# Altium schematic symbol library IC.SchLib: 32 symbols
Pins are listed as number, name and electrical type; pins without a type are passive.

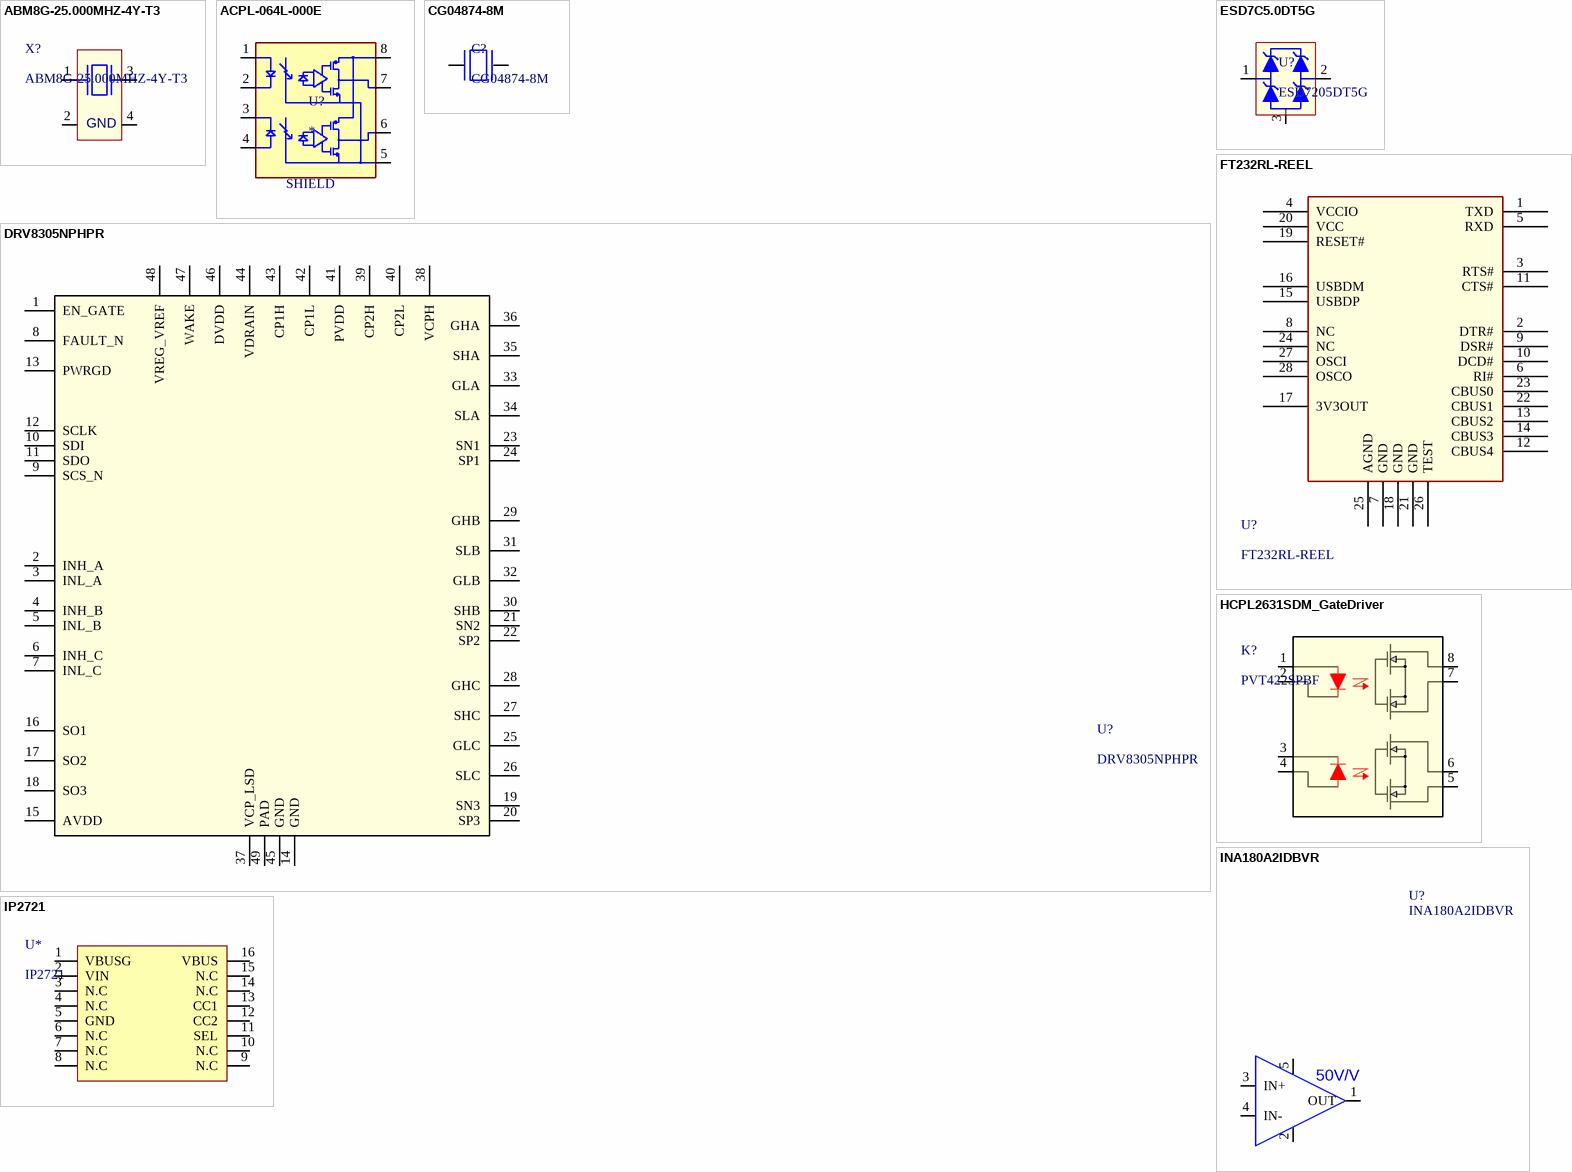
[diagram p0: symbols ABM8G-25.000MHZ-4Y-T3 to IP2721]

## ABM8G-25.000MHZ-4Y-T3
designator X?
Description; Manufacturer_Name: Abracon; Type: Crystals; Copyright: Copyright (C) 2025 Ultra Librarian. All rights reserved.; Manufacturer_Part_Number: ABM8G-25.000MHZ-4Y-T3; RefDes: RefDes
footprint ABM8G_ABR
pins: 1, 2, 3, 4
text: GND

## ACPL-064L-000E
designator U?
MP: ACPL-064L-000E; Value: *; Package: None; Price: None; Availability: Unavailable
footprint OPTO_ACPL-064L-000E
pins: 1 A1, 2 C1, 3 C2, 4 A2, 5 GND (power), 6 VO2, 7 VO1, 8 VDD (power)
text: SHIELD

## CG04874-8M
designator C?
8 MHz ±20ppm Crystal 8pF 500 Ohms 2-SMD, No Lead; MF: NDK America, Inc.; SnapEDA_Link: https://www.snapeda.com/parts/CG04874-8M/NDK+America%252C+Inc./view-part/?ref=snap; Package: SMD-2 NDK America,; Value: *; MP: CG04874-8M; Check_prices: https://www.snapeda.com/parts/CG04874-8M/NDK+America%252C+Inc./view-part/?ref=eda
footprint CG04874 (Footprint not found)
pins: 1, 2

## DRV8305NPHPR
designator U?
45-V max 3-phase smart gate driver with current shunt amplifiers & SPI 48-HTQFP -40 to 125; Manufacturer_Name: Texas Instruments; PartNumber: DRV83053PHPR; Alternate_PartNumber: DRV83053PHP; CompType: IC; TYPE: TYPE; RefDes: RefDes; Copyright: Copyright (C) 2025 Ultra Librarian. All rights reserved.; Manufacturer_Part_Number: DRV8305NPHPR; Application_BuildNumber: *; PackageReference: PHP0048G; MountType: SMT; RoHS: Y; Manufacturer: Texas Instruments
footprint DRV8305NPHPR
pins: 1 EN_GATE, 2 INH_A, 3 INL_A, 4 INH_B, 5 INL_B, 6 INH_C, 7 INL_C, 8 FAULT_N, 9 SCS_N, 10 SDI, 11 SDO, 12 SCLK, 13 PWRGD, 14 GND, 15 AVDD, 16 SO1, 17 SO2, 18 SO3, 19 SN3, 20 SP3, 21 SN2, 22 SP2, 23 SN1, 24 SP1, 25 GLC, 26 SLC, 27 SHC, 28 GHC, 29 GHB, 30 SHB, 31 SLB, 32 GLB, 33 GLA, 34 SLA, 35 SHA, 36 GHA, 37 VCP_LSD, 38 VCPH, 39 CP2H, 40 CP2L, 41 PVDD, 42 CP1L, 43 CP1H, 44 VDRAIN, 45 GND, 46 DVDD, 47 WAKE, 48 VREG_VREF, 49 PAD

## ESD7C5.0DT5G
designator U?, comment ESD7205DT5G
Manufacturer_Name: onsemi; Manufacturer_Part_Number: ESD7C5.0DT5G; Copyright: Copyright (C) 2026 Ultra Librarian. All rights reserved.; RefDes: RefDes; Type: Type
footprint SOT-723_ONS
pins: 1, 2, 3

## FT232RL-REEL
designator U?
Description; Manufacturer_Name: FTDI, Future Technology Devices International Ltd; Copyright: Copyright (C) 2025 Ultra Librarian. All rights reserved.; Manufacturer_Part_Number: FT232RL-REEL; RefDes: RefDes; Type: Type
footprint IC28_SSOP-28_FTD (Footprint not found)
pins: 1 TXD, 2 DTR#, 3 RTS#, 4 VCCIO, 5 RXD, 6 RI#, 7 GND, 8 NC, 9 DSR#, 10 DCD#, 11 CTS#, 12 CBUS4, 13 CBUS2, 14 CBUS3, 15 USBDP, 16 USBDM, 17 3V3OUT, 18 GND, 19 RESET#, 20 VCC, 21 GND, 22 CBUS1, 23 CBUS0, 24 NC, 25 AGND, 26 TEST, 27 OSCI, 28 OSCO

## HCPL2631SDM_GateDriver
designator K?, comment PVT422SPBF
PWM/Level Shifter/Votlage Isolator; Manufacturer_Name: Infineon; Type: Solid State Relays; Copyright: Copyright (C) 2026 Ultra Librarian. All rights reserved.; Manufacturer_Part_Number: PVT422SPBF; RefDes: RefDes
footprint HCPL2631SDM_GateDriver
pins: 1, 2, 3, 4, 5, 6, 7, 8

## INA180A2IDBVR
designator U?  Gain: 50V/V
26V, 350kHz current sense amplifier 5-SOT-23 -40 to 125; Manufacturer_Name: Texas Instruments; RefDes: RefDes; Copyright: Copyright (C) 2026 Ultra Librarian. All rights reserved.; Manufacturer_Part_Number: INA180A2IDBVR
footprint INA180A (Footprint not found)
pins: 1 OUT, 2 GND (power), 3 IN+, 4 IN-, 5 VS (power)

## IP2721
designator U*
USB C PD Sink IP2721
footprint IP2721 (TSOP, 16-Leads, IPC Medium Density)
pins: 1 VBUSG, 2 VIN, 3 N.C, 4 N.C, 5 GND, 6 N.C, 7 N.C, 8 N.C, 9 N.C, 10 N.C, 11 SEL, 12 CC2, 13 CC1, 14 N.C, 15 N.C, 16 VBUS

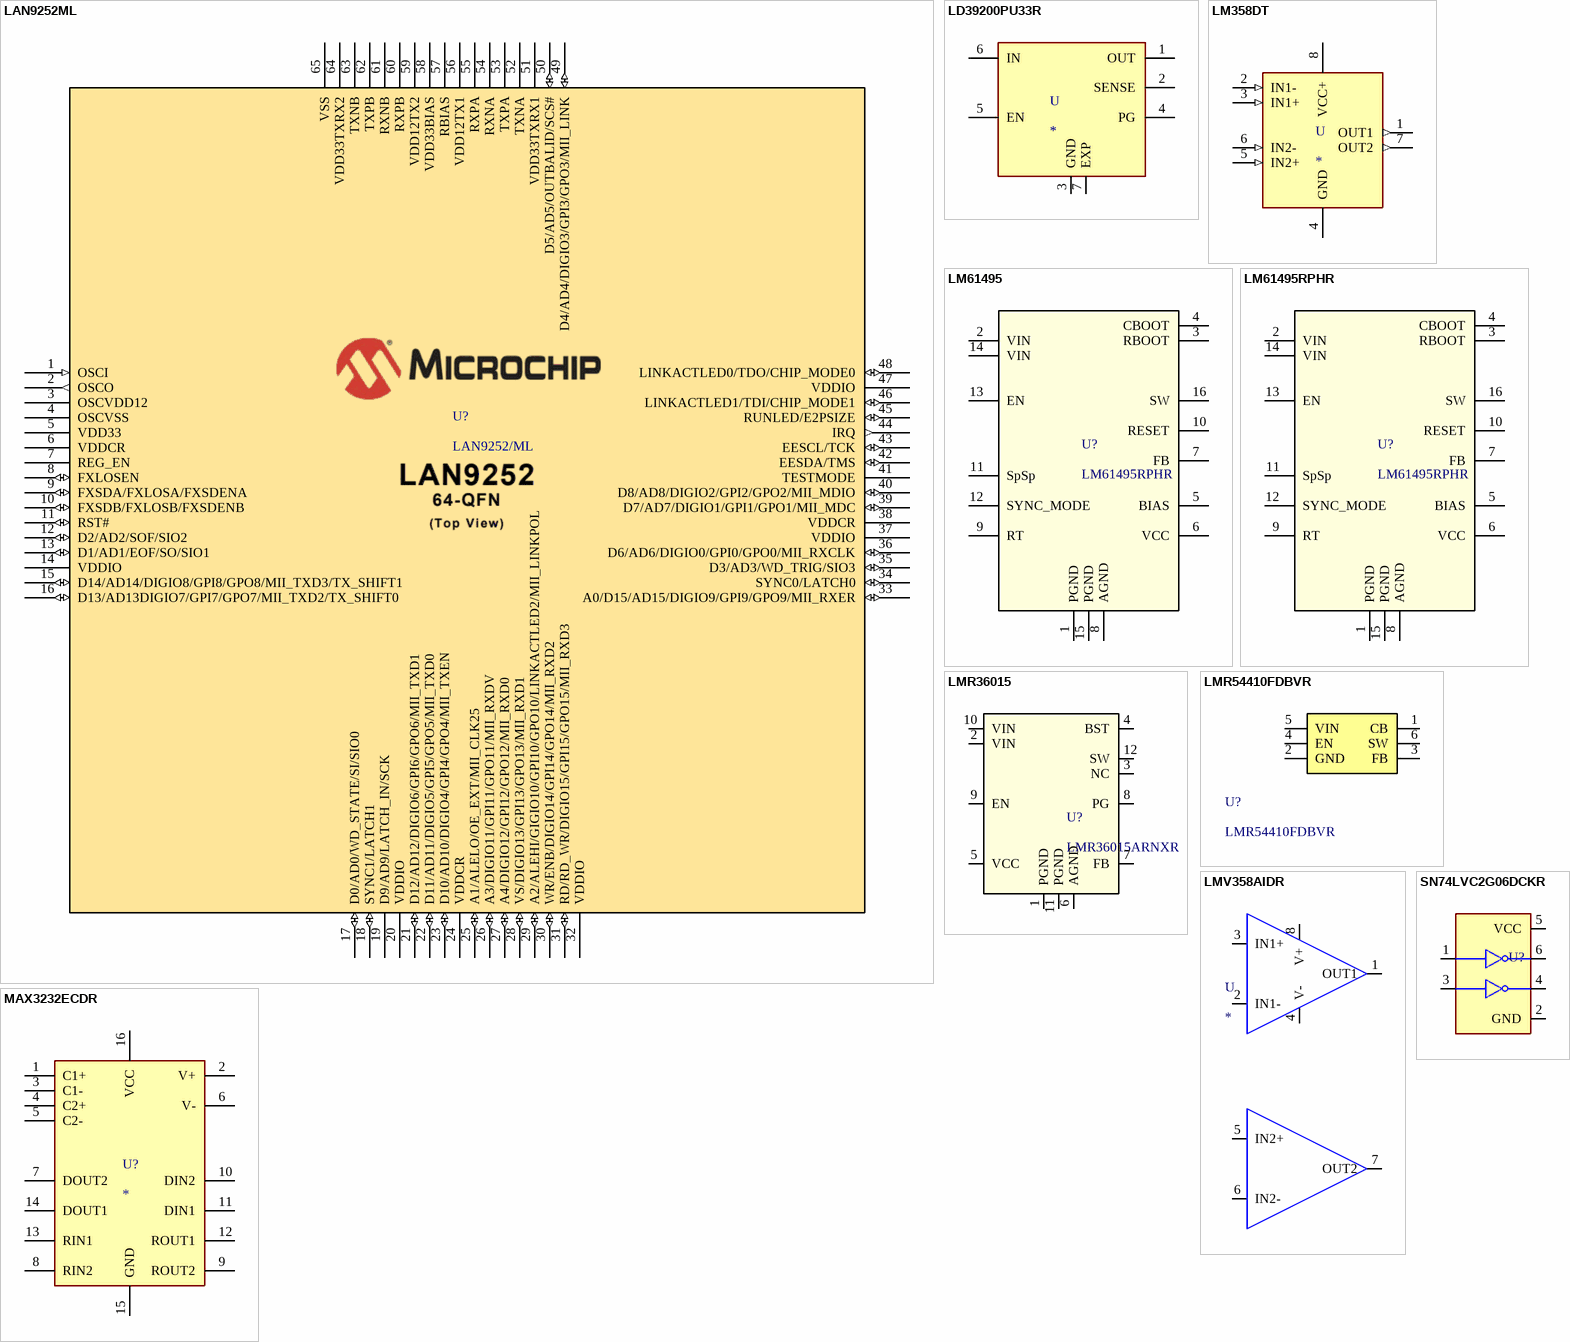
[diagram p1: symbols LAN9252ML to SN74LVC2G06DCKR]

## LAN9252ML
designator U?, comment LAN9252/ML
Description; Manufacturer_Name: Microchip; Copyright: Copyright (C) 2025 Ultra Librarian. All rights reserved.; Manufacturer_Part_Number: LAN9252/ML; RefDes: RefDes; Type: Type
footprint QFN64_ML_MCH
pins: 1 OSCI (in), 2 OSCO (out), 3 OSCVDD12 (power), 4 OSCVSS (power), 5 VDD33 (power), 6 VDDCR (power), 7 REG_EN, 8 FXLOSEN (io), 9 FXSDA/FXLOSA/FXSDENA (io), 10 FXSDB/FXLOSB/FXSDENB (io), 11 RST# (io), 12 D2/AD2/SOF/SIO2 (io), 13 D1/AD1/EOF/SO/SIO1 (io), 14 VDDIO (power), 15 D14/AD14/DIGIO8/GPI8/GPO8/MII_TXD3/TX_SHIFT1 (io), 16 D13/AD13DIGIO7/GPI7/GPO7/MII_TXD2/TX_SHIFT0 (io), 17 D0/AD0/WD_STATE/SI/SIO0 (io), 18 SYNC1/LATCH1 (io), 19 D9/AD9/LATCH_IN/SCK, 20 VDDIO (power), 21 D12/AD12/DIGIO6/GPI6/GPO6/MII_TXD1 (io), 22 D11/AD11/DIGIO5/GPI5/GPO5/MII_TXD0 (io), 23 D10/AD10/DIGIO4/GPI4/GPO4/MII_TXEN (io), 24 VDDCR (power), 25 A1/ALELO/OE_EXT/MII_CLK25 (io), 26 A3/DIGIO11/GPI11/GPO11/MII_RXDV (io), 27 A4/DIGIO12/GPI12/GPO12/MII_RXD0 (io), 28 VS/DIGIO13/GPI13/GPO13/MII_RXD1 (io), 29 A2/ALEHI/GIGIO10/GPI10/GPO10/LINKACTLED2/MII_LINKPOL (io), 30 WR/ENB/DIGIO14/GPI14/GPO14/MII_RXD2 (io), 31 RD/RD_WR/DIGIO15/GPI15/GPO15/MII_RXD3 (io), 32 VDDIO (power), 33 A0/D15/AD15/DIGIO9/GPI9/GPO9/MII_RXER (io), 34 SYNC0/LATCH0 (io), 35 D3/AD3/WD_TRIG/SIO3 (io), 36 D6/AD6/DIGIO0/GPI0/GPO0/MII_RXCLK (io), 37 VDDIO (power), 38 VDDCR (power), 39 D7/AD7/DIGIO1/GPI1/GPO1/MII_MDC (io), 40 D8/AD8/DIGIO2/GPI2/GPO2/MII_MDIO (io), 41 TESTMODE, 42 EESDA/TMS (io), 43 EESCL/TCK (io), 44 IRQ (out), 45 RUNLED/E2PSIZE (io), 46 LINKACTLED1/TDI/CHIP_MODE1 (io), 47 VDDIO (power), 48 LINKACTLED0/TDO/CHIP_MODE0 (io), 49 D4/AD4/DIGIO3/GPI3/GPO3/MII_LINK (io), 50 D5/AD5/OUTBALID/SCS# (io), 51 VDD33TXRX1 (power), 52 TXNA, 53 TXPA, 54 RXNA, 55 RXPA, 56 VDD12TX1 (power), 57 RBIAS, 58 VDD33BIAS (power), 59 VDD12TX2 (power), 60 RXPB, 61 RXNB, 62 TXPB, 63 TXNB, 64 VDD33TXRX2 (power), 65 VSS (power)

## LD39200PU33R
designator U
Linear Voltage Regulator IC 1 Output 2A 6-DFN _3x3_; MP: LD39200PU33R; MF: STMicroelectronics; Package: DFN-6 STMicroelectronics; SnapEDA_Link: https://www.snapeda.com/parts/LD39200PU33R/STMicroelectronics/view-part/482679/?ref=snap; Value: *; Availability: Unavailable; Price: None
footprint SON95P300X300X100-7N (Footprint not found)
pins: 1 OUT, 2 SENSE, 3 GND (power), 4 PG, 5 EN, 6 IN, 7 EXP (power)

## LM358DT
designator U
General Purpose Amplifier 2 Circuit 8-SO; MP: LM358DT; MF: STMicroelectronics; Price: None; Package: SOIC-8 STMicroelectronics; Value: *; Availability: Unavailable; SnapEDA_Link: https://www.snapeda.com/parts/LM358DT/STMicroelectronics/view-part/6634/?ref=snap
footprint SOIC127P600X175-8N
pins: 1 OUT1 (out), 2 IN1- (in), 3 IN1+ (in), 4 GND (power), 5 IN2+ (in), 6 IN2- (in), 7 OUT2 (out), 8 VCC+ (power)

## LM61495
designator U?, comment LM61495RPHR
10-A buck converter optimized for power density and low EMI 16-VQFN-HR -40 to 150; Manufacturer_Name: Texas Instruments; TYPE: TYPE; RefDes: RefDes; Copyright: Copyright (C) 2025 Ultra Librarian. All rights reserved.; Manufacturer_Part_Number: LM61495RPHR
footprint LM61495
pins: 1 PGND (power), 2 VIN (power), 3 RBOOT, 4 CBOOT, 5 BIAS, 6 VCC (power), 7 FB, 8 AGND (power), 9 RT, 10 RESET, 11 SpSp, 12 SYNC_MODE, 13 EN, 14 VIN (power), 15 PGND (power), 16 SW (power)

## LM61495RPHR
designator U?
10-A buck converter optimized for power density and low EMI 16-VQFN-HR -40 to 150; Manufacturer_Name: Texas Instruments; TYPE: TYPE; RefDes: RefDes; Copyright: Copyright (C) 2025 Ultra Librarian. All rights reserved.; Manufacturer_Part_Number: LM61495RPHR
footprint RPH0016A
pins: 1 PGND (power), 2 VIN (power), 3 RBOOT, 4 CBOOT, 5 BIAS, 6 VCC (power), 7 FB, 8 AGND (power), 9 RT, 10 RESET, 11 SpSp, 12 SYNC_MODE, 13 EN, 14 VIN (power), 15 PGND (power), 16 SW (power)

## LMR36015
designator U?, comment LMR36015ARNXR
4.2-V to 60-V, 1.5-A ultra-small synchronous step-down converter 12-VQFN-HR -40 to 150; Manufacturer_Name: Texas Instruments; TYPE: TYPE; RefDes: RefDes; Copyright: Copyright (C) 2026 Ultra Librarian. All rights reserved.; Manufacturer_Part_Number: LMR36015ARNXR
footprint LMR36015 (Footprint not found)
pins: 1 PGND, 2 VIN, 3 NC, 4 BST, 5 VCC, 6 AGND, 7 FB, 8 PG, 9 EN, 10 VIN, 11 PGND, 12 SW

## LMR54410FDBVR
designator U?
4V to 36V, 1A, 80-ÂµA Iq synchronous SIMPLE SWITCHERÂ® power converter 6-SOT-23 -40 to 125; Manufacturer_Name: Texas Instruments; Copyright: Copyright (C) 2025 Ultra Librarian. All rights reserved.; Manufacturer_Part_Number: LMR54410FDBVR; RefDes: RefDes; Type: Type
footprint LMR54410
pins: 1 CB (power), 2 GND (power), 3 FB, 4 EN, 5 VIN (power), 6 SW (power)

## LMV358AIDR
designator U
General Purpose Amplifier 2 Circuit 8-SOT / LMV358AIDR; MP: LM358DT; MF: STMicroelectronics; Price: None; Package: SOIC-8 STMicroelectronics; Value: *; Availability: Unavailable; SnapEDA_Link: https://www.snapeda.com/parts/LM358DT/STMicroelectronics/view-part/6634/?ref=snap
footprint SOIC127P600X175-8N
pins: 1 OUT1, 2 IN1-, 3 IN1+, 4 V-, 5 IN2+, 6 IN2-, 7 OUT2, 8 V+ (power)

## MAX3232ECDR
designator U?
3- to 5.5-V dual channel 250kbps RS-232 line driver/receiver with +/-15-kV IEC-ESD protection; MF: Texas Instruments; MP: MAX3232ECDR; SnapEDA_Link: https://www.snapeda.com/parts/MAX3232ECDR/Texas+Instruments/view-part/?ref=snap; Package: SOIC-16 Texas Instruments; Value: *; Check_prices: https://www.snapeda.com/parts/MAX3232ECDR/Texas+Instruments/view-part/?ref=eda
footprint MAX3232 (Footprint not found)
pins: 1 C1+, 2 V+, 3 C1-, 4 C2+, 5 C2-, 6 V-, 7 DOUT2, 8 RIN2, 9 ROUT2, 10 DIN2, 11 DIN1, 12 ROUT1, 13 RIN1, 14 DOUT1, 15 GND (power), 16 VCC

## SN74LVC2G06DCKR
designator U?  (value not drawn)
2-ch, 1.65-V to 5.5-V inverters with open-drain outputs; MF: Texas Instruments; MP: SN74LVC2G06DCKR; SnapEDA_Link: https://www.snapeda.com/parts/SN74LVC2G06DCKR/Texas+Instruments/view-part/?ref=snap; Package: SOT-SC70-6 Texas Instruments; Value: *; Check_prices: https://www.snapeda.com/parts/SN74LVC2G06DCKR/Texas+Instruments/view-part/?ref=eda
footprint SOT65P210X110-6N
pins: 1 1A, 2 GND (power), 3 2A, 4 2Y, 5 VCC (power), 6 1Y

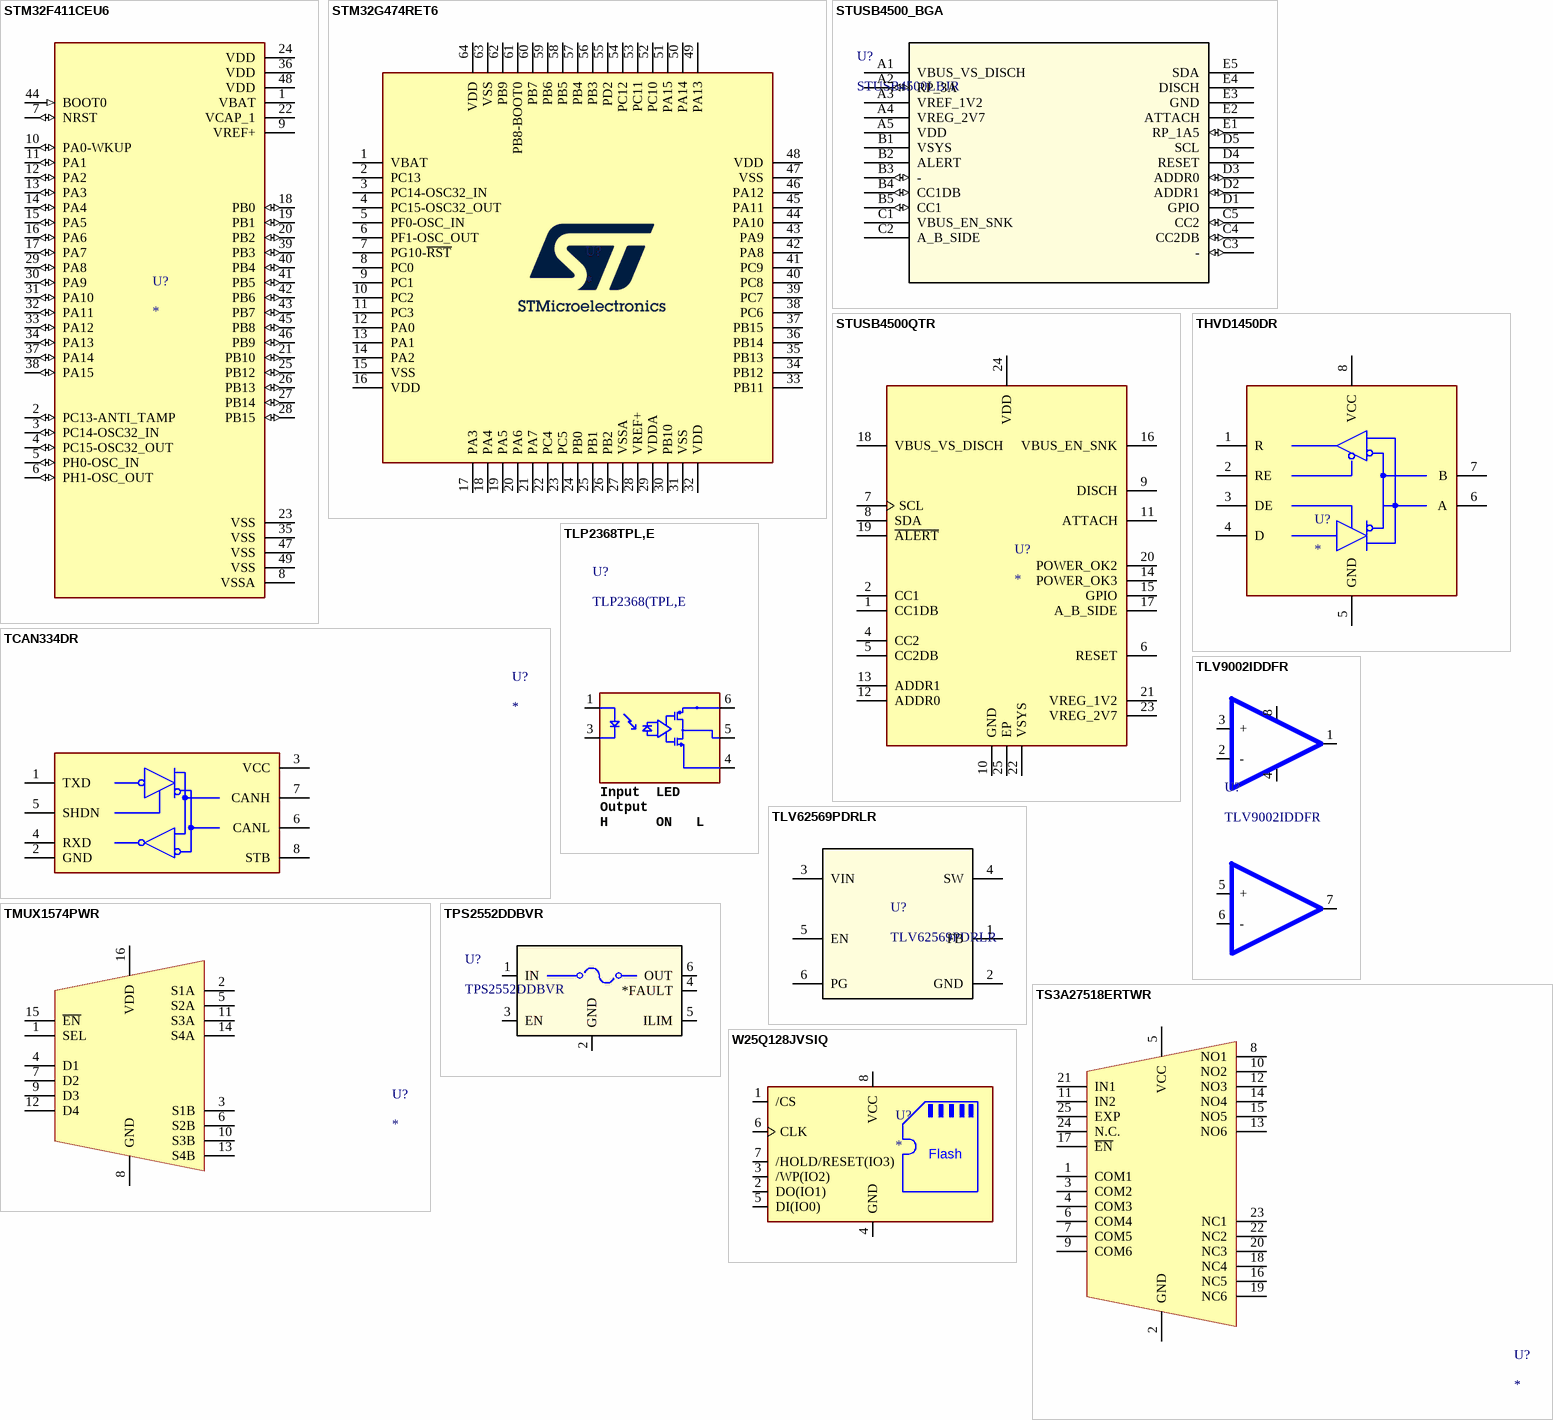
[diagram p2: symbols STM32F411CEU6 to W25Q128JVSIQ]

## STM32F411CEU6
designator U?
High-performance access line, ARM Cortex-M4 core with DSP and FPU, 512 Kbytes Flash, 100 MHz CPU, ART Accelerator; MP: STM32F411CEU6; Package: None; Availability: Unavailable; Value: *; Price: None
footprint STM32F411 (fdasfdasfsd)
pins: 1 VBAT (power), 2 PC13-ANTI_TAMP (io), 3 PC14-OSC32_IN (io), 4 PC15-OSC32_OUT (io), 5 PH0-OSC_IN (io), 6 PH1-OSC_OUT (io), 7 NRST (io), 8 VSSA (power), 9 VREF+ (power), 10 PA0-WKUP (io), 11 PA1 (io), 12 PA2 (io), 13 PA3 (io), 14 PA4 (io), 15 PA5 (io), 16 PA6 (io), 17 PA7 (io), 18 PB0 (io), 19 PB1 (io), 20 PB2 (io), 21 PB10 (io), 22 VCAP_1 (power), 23 VSS (power), 24 VDD (power), 25 PB12 (io), 26 PB13 (io), 27 PB14 (io), 28 PB15 (io), 29 PA8 (io), 30 PA9 (io), 31 PA10 (io), 32 PA11 (io), 33 PA12 (io), 34 PA13 (io), 35 VSS (power), 36 VDD (power), 37 PA14 (io), 38 PA15 (io), 39 PB3 (io), 40 PB4 (io), 41 PB5 (io), 42 PB6 (io), 43 PB7 (io), 44 BOOT0 (in), 45 PB8 (io), 46 PB9 (io), 47 VSS (power), 48 VDD (power), 49 VSS (power)

## STM32G474RET6
designator U?
ARM Cortex M4F STM32G4 Microcontroller IC 32-Bit Single-Core 170MHz 512KB (512K x 8) FLASH 64-LQFP (10x10); MF: STMicroelectronics; MP: STM32G474RET6; SnapEDA_Link: https://www.snapeda.com/parts/STM32G474RET6/STMicroelectronics/view-part/?ref=snap; Package: LQFP-64 STMicroelectronics; Value: *; Check_prices: https://www.snapeda.com/parts/STM32G474RET6/STMicroelectronics/view-part/?ref=eda
footprint QFP50P1200X1200X160-64N (Footprint not found)
pins: 1 VBAT, 2 PC13, 3 PC14-OSC32_IN, 4 PC15-OSC32_OUT, 5 PF0-OSC_IN, 6 PF1-OSC_OUT, 7 PG10-~{RST}, 8 PC0, 9 PC1, 10 PC2, 11 PC3, 12 PA0, 13 PA1, 14 PA2, 15 VSS, 16 VDD, 17 PA3, 18 PA4, 19 PA5, 20 PA6, 21 PA7, 22 PC4, 23 PC5, 24 PB0, 25 PB1, 26 PB2, 27 VSSA, 28 VREF+, 29 VDDA, 30 PB10, 31 VSS, 32 VDD, 33 PB11, 34 PB12, 35 PB13, 36 PB14, 37 PB15, 38 PC6, 39 PC7, 40 PC8, 41 PC9, 42 PA8, 43 PA9, 44 PA10, 45 PA11, 46 PA12, 47 VSS, 48 VDD, 49 PA13, 50 PA14, 51 PA15, 52 PC10, 53 PC11, 54 PC12, 55 PD2, 56 PB3, 57 PB4, 58 PB5, 59 PB6, 60 PB7, 61 PB8-BOOT0, 62 PB9, 63 VSS, 64 VDD

## STUSB4500_BGA
designator U?, comment STUSB4500LBJR
Standalone USB Type-C port controller for power sinking devices; Manufacturer_Name: STMicroelectronics; Copyright: Copyright (C) 2026 Ultra Librarian. All rights reserved.; Manufacturer_Part_Number: STUSB4500LBJR; RefDes: RefDes; Type: Type
footprint STUSB4500_BGA
pins: A1 VBUS_VS_DISCH, A2 RP_3A (io), A3 VREF_1V2 (power), A4 VREG_2V7, A5 VDD (power), B1 VSYS, B2 ALERT, B3 - (io), B4 CC1DB (io), B5 CC1 (io), C1 VBUS_EN_SNK, C2 A_B_SIDE, C3 - (io), C4 CC2DB (io), C5 CC2 (io), D1 GPIO, D2 ADDR1 (io), D3 ADDR0 (io), D4 RESET, D5 SCL, E1 RP_1A5 (io), E2 ATTACH, E3 GND (power), E4 DISCH, E5 SDA

## STUSB4500QTR
designator U?
USB Controller USB 2.0 I2C Interface 24-QFN (4x4); MF: STMicroelectronics; MP: STUSB4500QTR; SnapEDA_Link: https://www.snapeda.com/parts/STUSB4500QTR/STMicroelectronics/view-part/?ref=snap; Package: VFQFN-24 STMicroelectronics; Value: *; Check_prices: https://www.snapeda.com/parts/STUSB4500QTR/STMicroelectronics/view-part/?ref=eda
footprint STUSB4500 (Footprint not found)
pins: 1 CC1DB, 2 CC1, 4 CC2, 5 CC2DB, 6 RESET, 7 SCL, 8 SDA, 9 DISCH, 10 GND (power), 11 ATTACH, 12 ADDR0, 13 ADDR1, 14 POWER_OK3, 15 GPIO, 16 VBUS_EN_SNK, 17 A_B_SIDE, 18 VBUS_VS_DISCH, 19 ~{ALERT}, 20 POWER_OK2, 21 VREG_1V2, 22 VSYS, 23 VREG_2V7, 24 VDD, 25 EP (power)

## TCAN334DR
designator U?
3.3-V CAN Transceivers; MF: Texas Instruments; MP: TCAN334DR; SnapEDA_Link: https://www.snapeda.com/parts/TCAN334DR/Texas+Instruments/view-part/?ref=snap; Package: SOIC-8 Texas Instruments; Value: *; Check_prices: https://www.snapeda.com/parts/TCAN334DR/Texas+Instruments/view-part/?ref=eda
footprint SOIC127P599X175-8N
pins: 1 TXD, 2 GND (power), 3 VCC (power), 4 RXD, 5 SHDN, 6 CANL, 7 CANH, 8 STB

## THVD1450DR
designator U?
3.3-V to 5-V RS-485 transceiver with Â±18-kV IEC ESD protection; MF: Texas Instruments; MP: THVD1450DR; SnapEDA_Link: https://www.snapeda.com/parts/THVD1450DR/Texas+Instruments/view-part/?ref=snap; Package: SOIC-8 Texas Instruments; Value: *; Check_prices: https://www.snapeda.com/parts/THVD1450DR/Texas+Instruments/view-part/?ref=eda
footprint SOIC127P599X175-8N
pins: 1 R, 2 RE, 3 DE, 4 D, 5 GND, 6 A, 7 B, 8 VCC

## TLP2368TPL,E
designator U?, comment TLP2368(TPL,E
Logic Output Optoisolator 20MBd Open Collector 3750Vrms 1 Channel 20kV/µs CMTI 6-SO, 5 Lead; Manufacturer_Name: Toshiba Electronic Devices & Storage Corp.; Number_devices_in_Package: 1; Copyright: Copyright (C) 2025 Ultra Librarian. All rights reserved.; Manufacturer_Part_Number: TLP2368(TPL,E; Source_Package: TLP2368; RefDes: Refdes; Type: Type
footprint 5pin SO6_TOS
pins: 1 A1, 3, 4 GND (power), 5, 6 (power)
text: Input  LED  Output / H      ON   L / L      OFF  H /

## TLV9002IDDFR
designator U?
Dual, 5.5-V, 1-MHz, RRIO operational amplifier for cost-optimized applications 8-SOT-23-THIN -40 to 125; Manufacturer_Name: Texas Instruments; Copyright: Copyright (C) 2025 Ultra Librarian. All rights reserved.; Manufacturer_Part_Number: TLV9002IDDFR; RefDes: RefDes; Type: Type
footprint SOT_9002IDDFR_TEX
pins: 1 OUT1, 2 -, 3 +, 4 V-, 5 +, 6 -, 7 OUT2, 8 V+ (power)

## TLV62569PDRLR
designator U?
2.5V-5.5V input, 2-A high efficiency step-down buck converter in SOT23 and SOT563 package 6-SOT-5X3 -40 to 125; Manufacturer_Name: Texas Instruments; TYPE: TYPE; RefDes: RefDes; Copyright: Copyright (C) 2025 Ultra Librarian. All rights reserved.; Manufacturer_Part_Number: TLV62569PDRLR
footprint TLV62569
pins: 1 FB, 2 GND (power), 3 VIN (power), 4 SW (power), 5 EN, 6 PG (oc)

## TMUX1574PWR
designator U?
5-V, 2:1 (SPDT), 4-channel analog switch with powered-off protection & 1.8-V input logic; MF: Texas Instruments; MP: TMUX1574PWR; SnapEDA_Link: https://www.snapeda.com/parts/TMUX1574PWR/Texas+Instruments/view-part/?ref=snap; Package: TSSOP-16 Texas Instruments; Value: *; Check_prices: https://www.snapeda.com/parts/TMUX1574PWR/Texas+Instruments/view-part/?ref=eda
footprint SOP65P640X120-16N
pins: 1 SEL, 2 S1A, 3 S1B, 4 D1, 5 S2A, 6 S2B, 7 D2, 8 GND (power), 9 D3, 10 S3B, 11 S3A, 12 D4, 13 S4B, 14 S4A, 15 ~{EN}, 16 VDD (power)

## TPS2552DDBVR
designator U?
0.075-1.7A adj. ILIMIT 2.5-6.5V 85m&Omega; USB power switch, active-low, reverse blocking, multip 6-SOT-23 -40 to 125; Manufacturer_Name: Texas Instruments; Copyright: Copyright (C) 2025 Ultra Librarian. All rights reserved.; Manufacturer_Part_Number: TPS2552DDBVR; RefDes: RefDes; Type: Type
footprint DBV0006A_TEX
pins: 1 IN, 2 GND, 3 EN, 4 *FAULT, 5 ILIM, 6 OUT

## TS3A27518ERTWR
designator U?
3.3-V, 2:1 (SPDT), 6-channel analog multiplexer with 1.8-V compatible control inputs; MF: Texas Instruments; MP: TS3A27518ERTWR; Digi-Key_Part_Number: 296-25415-2-ND; Check_prices: https://www.snapeda.com/parts/TS3A27518ERTWR/Texas+Instruments/view-part/?ref=eda; SnapEDA_Link: https://www.snapeda.com/parts/TS3A27518ERTWR/Texas+Instruments/view-part/?ref=snap; Value: *; Package: WQFN-24 Texas Instruments; Purchase-URL: https://pricing.snapeda.com/search/part/TS3A27518ERTWR/?ref=eda
footprint QFN50P400X400X80-25N
pins: 1 COM1, 2 GND, 3 COM2, 4 COM3, 5 VCC, 6 COM4, 7 COM5, 8 NO1, 9 COM6, 10 NO2, 11 IN2, 12 NO3, 13 NO6, 14 NO4, 15 NO5, 16 NC5, 17 ~{EN}, 18 NC4, 19 NC6, 20 NC3, 21 IN1, 22 NC2, 23 NC1, 24 N.C., 25 EXP

## W25Q128JVSIQ
designator U?
FLASH - NOR Memory IC 128Mb (16M x 8) SPI - Quad I/O, QPI, DTR 133 MHz 8-SOIC; MF: Winbond Electronics; MP: W25Q128JVSIQ; SnapEDA_Link: https://www.snapeda.com/parts/W25Q128JVSIQ/Winbond/view-part/?ref=snap; Package: SOIC-8 Winbond Electronics; Value: *; Check_prices: https://www.snapeda.com/parts/W25Q128JVSIQ/Winbond/view-part/?ref=eda
footprint SOIC127P790X216-8N
pins: 1 /CS, 2 DO(IO1), 3 /WP(IO2), 4 GND (power), 5 DI(IO0), 6 CLK, 7 /HOLD/RESET(IO3), 8 VCC (power)
text: Flash